# Altium schematic symbol library M_BATT_AAA.Schlib: 1 symbol
Pins are listed as number, name and electrical type; pins without a type are passive.

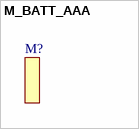
[diagram p0: symbol M_BATT_AAA]

## M_BATT_AAA
designator M?  (mechanical)